# Altium footprint library SJ-43516-SMT.PcbLib: 1 footprints
Each footprint in its own frame and in the unit in brackets; x right, y up, seen from the top. Pads: shape width x height; smd on the part's side, far side on the other; paste and mask are expansions set on the pad; w line width, h text height; cw(c..) or ccw(c..) is an arc to the next point about the centre after c.
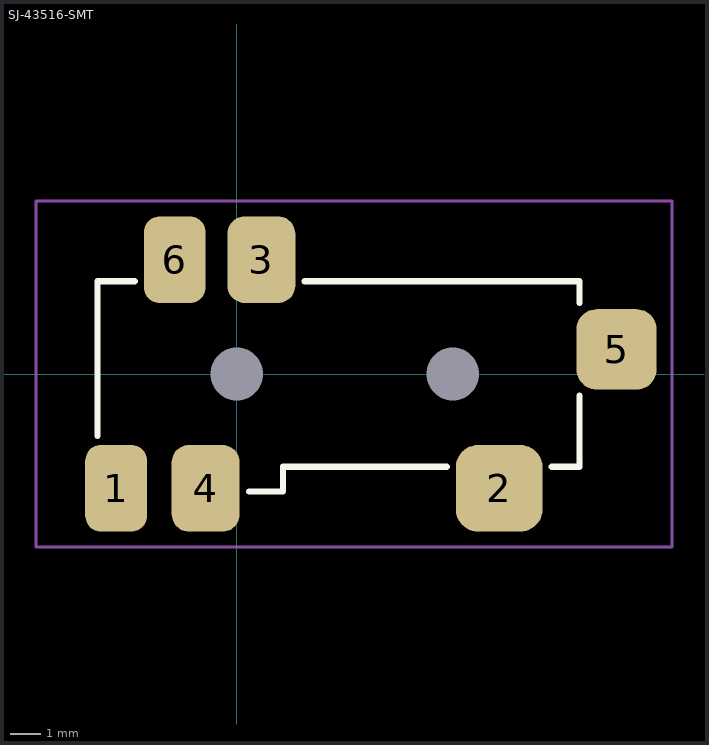
[diagram p0: the footprint, top view; thin cyan lines are the x and y axes]

## SJ-43516-SMT [mm]
pads (8):
  rrect50% 2x2.8 smd: 1(-3.9,-3.7) 6(-2,3.7)
  rrect50% 2.8x2.8 smd: 2(8.5,-3.7)
  rrect50% 2.2x2.8 smd: 3(0.8,3.7) 4(-1,-3.7)
  rrect50% 2.6x2.6 smd: 5(12.3,0.8)
  round 0.5 hole 1.7 unplated: ""(0,0) ""(7,0)
Top Overlay:
  lines w0.2: -4.5,-2 -4.5,3 -3.3,3 ; 0.4,-3.8 1.5,-3.8 1.5,-3 6.8,-3 ; 2.2,3 11.1,3 11.1,2.3 ; 10.2,-3 11.1,-3 11.1,-0.7
Top Courtyard:
  lines w0.1: -6.5,-5.6 -6.5,5.6 14.1,5.6 14.1,-5.6 -4,-5.6 -6.5,-5.6
3D body "CUI_DEVICES_SJ-43516-SMT-TR.step": height 5.1, standoff -0.9, extent -6,-4.5 13.5,4.5